# EAGLE library part USB4065-XX-X_REVA (library USB4065-XX-X_REVA)
USB Receptacle, Type C, Hybrid Type, PCB Top Mount
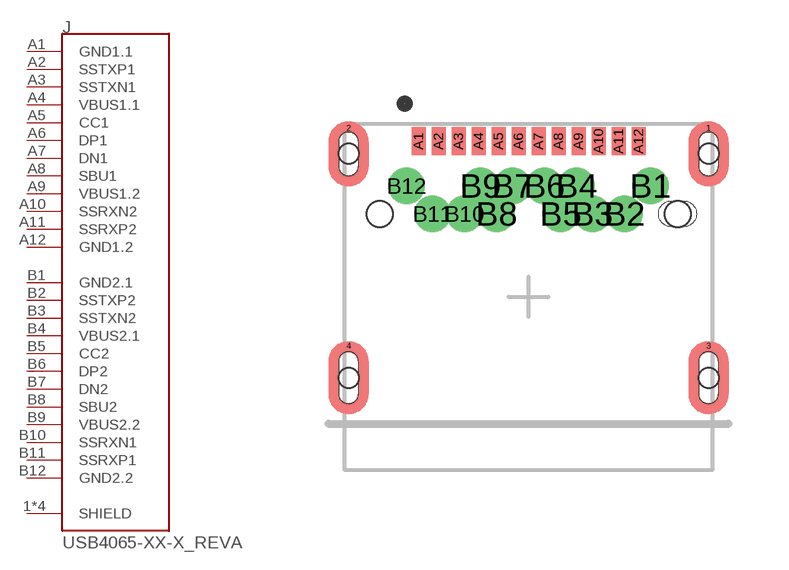
[diagram p0: symbol with the pads of GCT_USB4065-XX-X_REVA; footprint GCT_USB4065-XX-X_REVA]

Designator prefix J

## USB4065-XX-X_REVA (Availability: Unavailable; Description: USB Type C Receptacle Horizontal Hybrid PCB Top Mount 8.65 mm Body; MF: Global Connector Technology; MP: USB4065-30-A; Package: None; Price: None)  [GCT_USB4065-XX-X_REVA]
1  SHIELD  pas
2  SHIELD  pas
3  SHIELD  pas
4  SHIELD  pas
A1  GND1.1  pwr
A2  SSTXP1  out
A3  SSTXN1  out
A4  VBUS1.1  pwr
A5  CC1
A6  DP1
A7  DN1
A8  SBU1
A9  VBUS1.2  pwr
A10  SSRXN2  in
A11  SSRXP2  in
A12  GND1.2  pwr
B1  GND2.1  pwr
B2  SSTXP2  out
B3  SSTXN2  out
B4  VBUS2.1  pwr
B5  CC2
B6  DP2
B7  DN2
B8  SBU2
B9  VBUS2.2  pwr
B10  SSRXN1  in
B11  SSRXP1  in
B12  GND2.2  pwr

## Footprint GCT_USB4065-XX-X_REVA (pad centres in mm)
smd 0.1 x 0.1: 1 4.5,4.225; 2 -4.5,4.225; 3 4.5,-1.225; 4 -4.5,-1.225
smd 0.35 x 0.7: A1 -2.75,3.895; A2 -2.25,3.895; A3 -1.75,3.895; A4 -1.25,3.895; A5 -0.75,3.895; A6 -0.25,3.895; A7 0.25,3.895; A8 0.75,3.895; A9 1.25,3.895; A10 1.75,3.895; A11 2.25,3.895; A12 2.75,3.895
drill 0.4 pad 0.65: B1 3.05,2.775; B2 2.4,2.075; B3 1.6,2.075; B4 1.2,2.775; B5 0.8,2.075; B6 0.4,2.775; B7 -0.4,2.775; B8 -0.8,2.075; B9 -1.2,2.775; B10 -1.6,2.075; B11 -2.4,2.075; B12 -3.05,2.775
hole 0.65 at 3.725,2.075
hole 0.5 at 4.5,3.575
hole 0.5 at -4.5,3.575
hole 0.65 at -3.725,2.075
hole 0.5 at 4.5,-2.025
hole 0.5 at -4.5,-2.025